# Altium footprint library PCB_Special.PcbLib: 8 footprints
Each footprint in its own frame and in the unit in brackets; x right, y up, seen from the top. Pads: shape width x height; smd on the part's side, far side on the other; paste and mask are expansions set on the pad; w line width, h text height; cw(c..) or ccw(c..) is an arc to the next point about the centre after c.
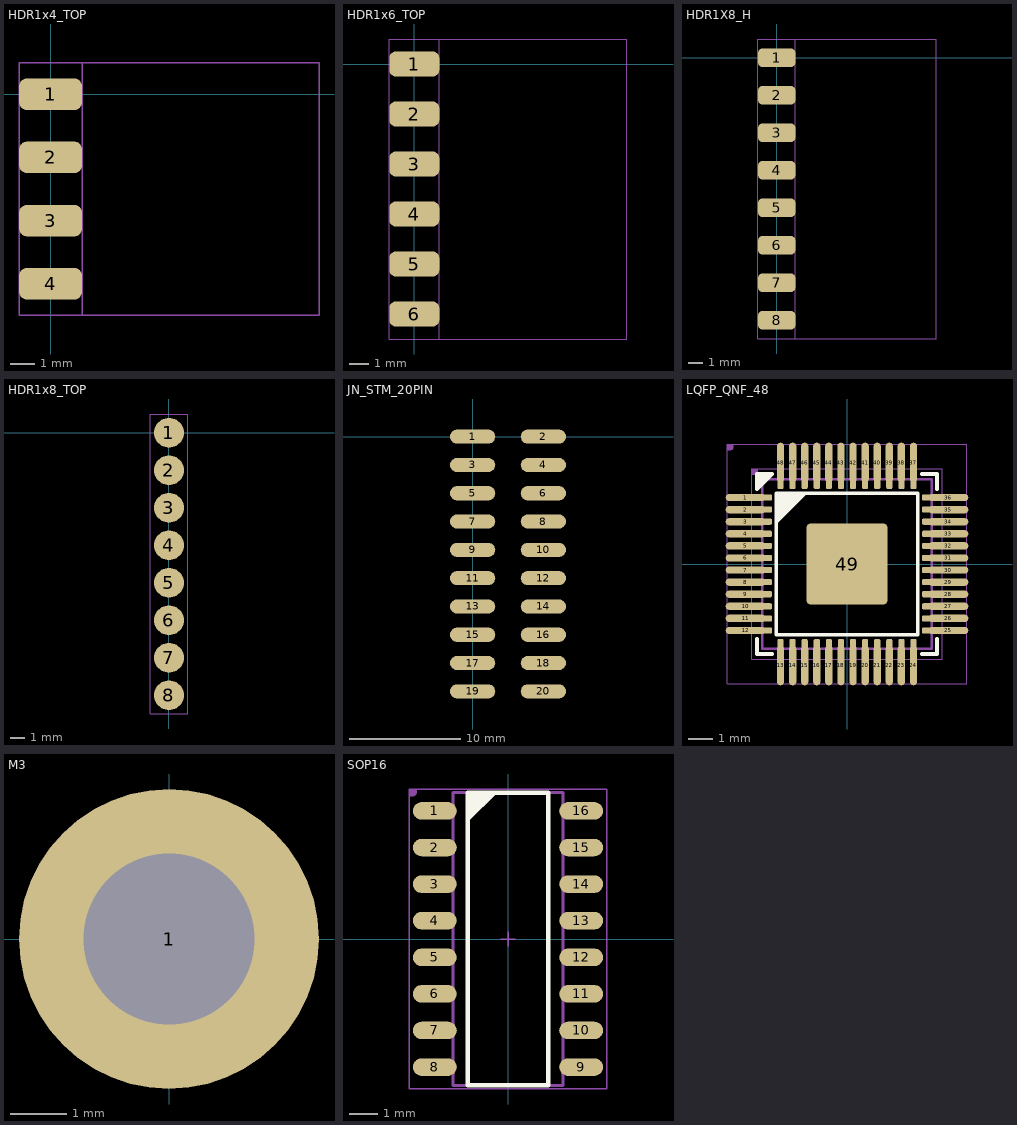
[diagram p0: the footprints below, top view; thin cyan lines are the x and y axes]

## HDR1x4_TOP [mil]
pads (4):
  rrect50% 100x50 smd: 1(0,0) 2(0,-100) 3(0,-200) 4(0,-300)
Mechanical 13:
  lines w2: -50,-350 425,-350 425,50 -50,50 -50,-350
Mechanical 14:
  lines w2: -50,-350 -50,50 50,50 50,-350 -50,-350
  text ".Designator" at -31,-170 h80
3D body "pin_header_aw140-ea-g04g.stp": height 99.21, standoff -93.7, extent -14.96,-346.06 423.62,46.07

## HDR1x6_TOP [mil]
pads (6):
  rrect50% 100x50 smd: 1(0,0) 2(0,-100) 3(0,-200) 4(0,-300) 5(0,-400) 6(0,-500)
Mechanical 13:
  lines w2: -50,-550 425,-550 425,50 -50,50 -50,-550
Mechanical 14:
  lines w2: -50,-550 50,-550 50,50 -50,50 -50,-550
  text ".Designator" at -31,-270 h80
3D body "pin_header_aw140-ea-g06g.stp": height 99.21, standoff -93.7, extent -14.96,-546.06 423.62,46.07

## HDR1X8_H [mil]
pads (8):
  rrect50% 100x50 smd: 1(0,0) 2(0,-100) 3(0,-200) 4(0,-300) 5(0,-400) 6(0,-500) 7(0,-600) 8(0,-700)
Mechanical 13:
  lines w2: -50,-750 425,-750 425,50 -50,50 -50,-750
Mechanical 14:
  lines w2: -50,-750 50,-750 50,50 -50,50 -50,-750
  text ".Designator" at -31,-270 h80
3D body "pin_header_aw140-ea-g06g.stp": height 99.21, standoff -93.7, extent -14.96,-546.06 423.62,46.07

## HDR1x8_TOP [mil]
pads (8):
  round 80 smd: 1(0,0) 2(0,-100) 3(0,-200) 4(0,-300) 5(0,-400) 6(0,-500) 7(0,-600) 8(0,-700)
Mechanical 13:
  lines w2: -50,-750 50,-750 50,50 -50,50 -50,-750
Mechanical 14:
  lines w2: -50,-750 -50,50 50,50 50,-750 -50,-750
3D body "pin_header_aw140-eg-g08d.stp": height 322.83, standoff -118.11, extent -49.18,-750 49.18,49.99

## JN_STM_20PIN [mil]
pads (20):
  oval 160x50 smd: 1(0,0) 2(250,0) 3(0,-100) 4(250,-100) 5(0,-200) 6(250,-200) 7(0,-300) 8(250,-300) 9(0,-400) 10(250,-400) 11(0,-500) 12(250,-500) 13(0,-600) 14(250,-600) 15(0,-700) 16(250,-700) 17(0,-800) 18(250,-800) 19(0,-900) 20(250,-900)

## LQFP_QNF_48 [mil]
pads (97):
  oval 65x12 smd: 1(-165,108.27) 2(-165,88.58) 3(-165,68.9) 4(-165,49.21) 5(-165,29.53) 6(-165,9.84) 7(-165,-9.84) 8(-165,-29.53) 9(-165,-49.21) 10(-165,-68.9) 11(-165,-88.58) 12(-165,-108.27) 25(165,-108.27) 26(165,-88.58) 27(165,-68.9) 28(165,-49.21) 29(165,-29.53) 30(165,-9.84) 31(165,9.84) 32(165,29.53) 33(165,49.21) 34(165,68.9) 35(165,88.58) 36(165,108.27)
  rrect50% 28x10 smd: 1(-136,108.27) 2(-136,88.58) 3(-136,68.9) 4(-136,49.21) 5(-136,29.53) 6(-136,9.84) 7(-136,-9.84) 8(-136,-29.53) 9(-136,-49.21) 10(-136,-68.9) 11(-136,-88.58) 12(-136,-108.27) 25(136,-108.27) 26(136,-88.58) 27(136,-68.9) 28(136,-49.21) 29(136,-29.53) 30(136,-9.84) 31(136,9.84) 32(136,29.53) 33(136,49.21) 34(136,68.9) 35(136,88.58) 36(136,108.27)
  rrect50% 10x28 smd: 13(-108.27,-136) 14(-88.58,-136) 15(-68.9,-136) 16(-49.21,-136) 17(-29.53,-136) 18(-9.84,-136) 19(9.84,-136) 20(29.53,-136) 21(49.21,-136) 22(68.9,-136) 23(88.58,-136) 24(108.27,-136) 37(108.27,136) 38(88.58,136) 39(68.9,136) 40(49.21,136) 41(29.53,136) 42(9.84,136) 43(-9.84,136) 44(-29.53,136) 45(-49.21,136) 46(-68.9,136) 47(-88.58,136) 48(-108.27,136)
  oval 12x65 smd: 13(-108.27,-165) 14(-88.58,-165) 15(-68.9,-165) 16(-49.21,-165) 17(-29.53,-165) 18(-9.84,-165) 19(9.84,-165) 20(29.53,-165) 21(49.21,-165) 22(68.9,-165) 23(88.58,-165) 24(108.27,-165) 37(108.27,165) 38(88.58,165) 39(68.9,165) 40(49.21,165) 41(29.53,165) 42(9.84,165) 43(-9.84,165) 44(-29.53,165) 45(-49.21,165) 46(-68.9,165) 47(-88.58,165) 48(-108.27,165)
  rrect10% 132x132 smd: 49(0,0)
Top Overlay:
  region: -115,115 -65,115 -115,65
  region: -146.67,146.67 -122,146.67 -146.67,122
  lines w6: -146.67,-122 -146.67,-146.67 -122,-146.67 ; 122,-146.67 146.67,-146.67 146.67,-122 ; 122,146.67 146.67,146.67 146.67,122 ; -146.67,122 -122,146.67 -146.67,146.67 -146.67,122 ; -115,-115 -115,115 115,115 115,-115 -115,-115
Top Solder:
  rectangle: -150,-108.27 -122,108.27
  region: 108.27,-150 108.27,-122 -108.27,-122 -108.27,-150
  region: 150,108.27 122,108.27 122,-108.27 150,-108.27
  region: -108.27,150 -108.27,122 108.27,122 108.27,150
Mechanical 13:
  lines w2: -137.79,-137.8 -137.79,137.8 137.8,137.8 137.8,-137.8 -137.79,-137.8 ; -10,0 10,0 -10,0 ; 0,-10 0,10 0,-10
  lines w3.94: -137.8,-137.8 -137.8,137.8 137.8,137.8 137.8,-137.8 -137.8,-137.8
Mechanical 14:
  region: -195,195 -185,195 -185,190 -185,189.01 -185.76,187.17 -187.17,185.76 -189.01,185 -190,185 -195,185
  region: -155,155 -145,155 -145,150 -145,149.01 -145.76,147.17 -147.17,145.76 -149.01,145 -150,145 -155,145
  lines w2: -195,-195 195,-195 195,195 -195,195 -195,-195 ; -155,-155 155,-155 155,155 -155,155 -155,-155
3D body "SW3dPS-Quad50M48.STEP": height 61.42, standoff 0, extent -177.16,-177.66 177.17,176.67
3D body "QFN50P700X700X55-48L.step": height 21.65, standoff 0, extent -138.58,-138.58 138.58,138.59

## M3 [mil]
pads (1):
  round 210 hole 120: 1(0,0)

## SOP16 [mil]
pads (16):
  oval 60x24 smd: 1(-100,175) 2(-100,125) 3(-100,75) 4(-100,25) 5(-100,-25) 6(-100,-75) 7(-100,-125) 8(-100,-175) 9(100,-175) 10(100,-125) 11(100,-75) 12(100,-25) 13(100,25) 14(100,75) 15(100,125) 16(100,175)
Top Overlay:
  region: -55,200 -15,200 -55,160
  lines w6: -55,-200 -55,200 55,200 55,-200 -55,-200
Mechanical 13:
  lines w2: -10,0 10,0 ; 0,-10 0,10
  lines w4: -75,-200 75,-200 75,200 -75,200 -75,-200
Mechanical 14:
  region: -135,205 -125,205 -125,200 -125,199.01 -125.76,197.17 -127.17,195.76 -129.01,195 -130,195 -135,195
  lines w2: -135,-205 -135,205 135,205 135,-205 -135,-205
3D body "User Library-SOIC-16-2.STEP": height 68.9, standoff 0, extent -118.1,-196.85 118.11,196.85